# Altium schematic symbol library Transistors.SchLib: 10 symbols
Pins are listed as number, name and electrical type; pins without a type are passive.

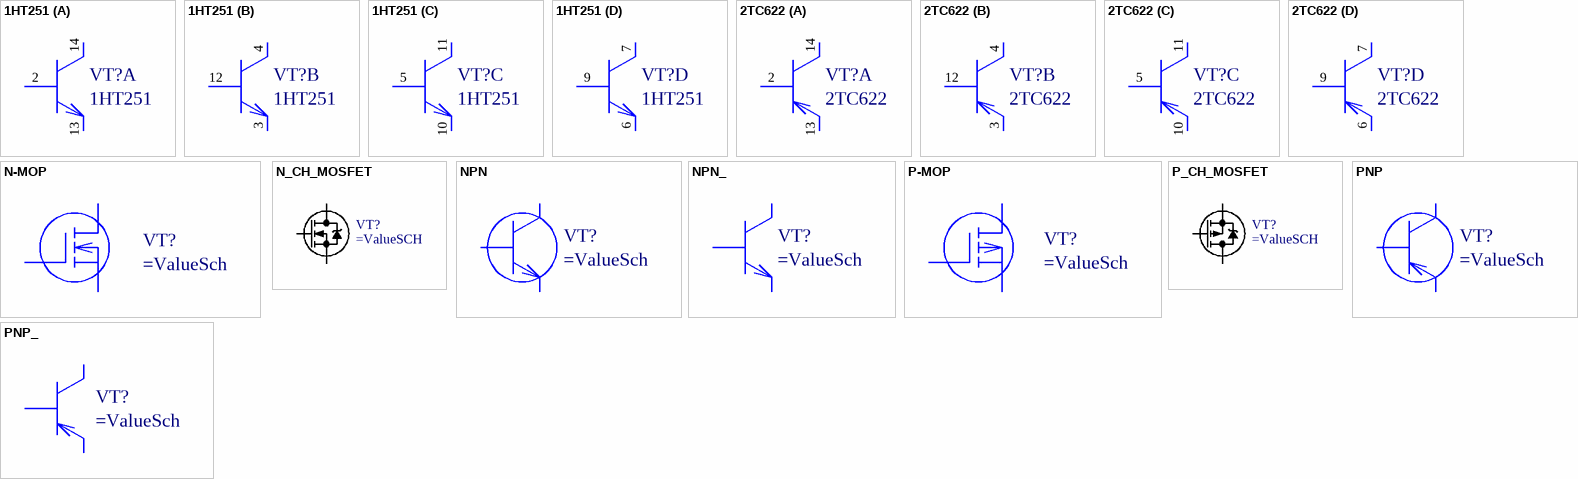
[diagram p0: symbols 1HT251 to PNP_]

## 1HT251
designator VT?, comment 1НТ251
Транзисторная матрица 4x n-p-n; ValueSCH: 1НТ251
part A pins: 2 B1, 13 E1, 14 C1
part B pins: 3 E2, 4 C2, 12 B2
part C pins: 5 B3, 10 E3, 11 C3
part D pins: 6 E4, 7 C4, 9 B4
3 alternate drawings of the same symbol

## 2TC622
designator VT?, comment 2ТС622
Транзисторная матрица 4x p-n-p; ValueSCH: 2ТС622
part A pins: 2 B1, 13 E1, 14 C1
part B pins: 3 E2, 4 C2, 12 B2
part C pins: 5 B3, 10 E3, 11 C3
part D pins: 6 E4, 7 C4, 9 B4
3 alternate drawings of the same symbol

## N-MOP
designator VT?
N-МОП с индуцированным каналом
pins: D, G, S
1 alternate drawing of the same symbol

## N_CH_MOSFET
designator VT?
N-Channel Enhancement Mode FET; Author: I. Kuznetsov
pins: D, G, S

## NPN
designator VT?
NPN_corpus
pins: B, C, E
3 alternate drawings of the same symbol

## NPN_
designator VT?
pins: B, C, E
3 alternate drawings of the same symbol

## P-MOP
designator VT?
P-МОП с индуцированным каналом
pins: D, G, S
1 alternate drawing of the same symbol

## P_CH_MOSFET
designator VT?
Author: I. Kuznetsov
pins: D, G, S

## PNP
designator VT?
PNP_corpus
pins: B, C, E
3 alternate drawings of the same symbol

## PNP_
designator VT?
pins: B, C, E
3 alternate drawings of the same symbol